# EAGLE library part TSL2561 (library blees)
TSL2561 light to digital converter
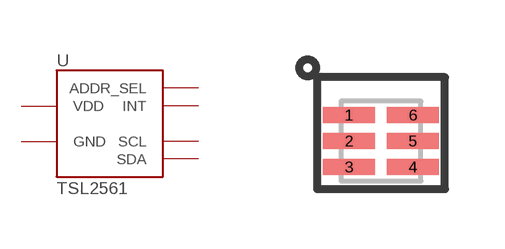
[diagram p1: symbol with the pads of DFN2; footprint DFN2]

Designator prefix -

## TSL2561DFN  [DFN2]
1  VDD  pwr
2  ADDR_SEL
3  GND  pwr
4  SCL
5  INT
6  SDA

## Footprint DFN2 (pad centres in mm)
Package for the DFN TSL2561 Light Sensor.
smd 1.3 x 0.4: 1 -0.8,0.65; 2 -0.8,0; 3 -0.8,-0.65; 4 0.8,-0.65; 5 0.8,0; 6 0.8,0.65